# Altium schematic symbol library oldman.SchLib: 6 symbols
Pins are listed as number, name and electrical type; pins without a type are passive.

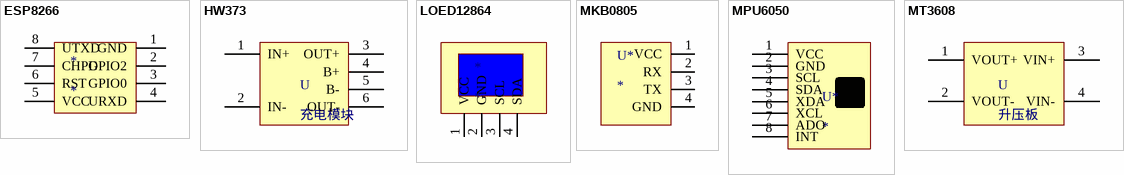
[diagram p0: symbols ESP8266 to MT3608]

## ESP8266
designator *
footprint ESP8266
pins: 1 GND, 2 GPIO2, 3 GPIO0, 4 URXD, 5 VCC (power), 6 RST, 7 CHPD, 8 UTXD

## HW373
designator U, comment 充电模块
footprint HW373 (升压板模块)
pins: 1 IN+, 2 IN-, 3 OUT+, 4 B+, 5 B-, 6 OUT-

## LOED12864
designator *
footprint OLED12864
pins: 1 VCC , 2 GND, 3 SCL, 4 SDA

## MKB0805
designator U*
footprint MKB0805
pins: 1 VCC, 2 RX, 3 TX, 4 GND

## MPU6050
designator U*
footprint MPU6050
pins: 1 VCC, 2 GND, 3 SCL, 4 SDA, 5 XDA, 6 XCL, 7 ADO, 8 INT

## MT3608
designator U, comment 升压板
footprint MT3608 (升压板模块封装)
pins: 1 VOUT+, 2 VOUT-, 3 VIN+, 4 VIN-